# EAGLE library part TPS27081A (library Parts)
ハイサイド負荷ドライバ 電圧 - 負荷：1.2 V～8 V 電流 - 出力（最大）：3A Rds On（標準）：32ミリオーム 動作温度：-40°C～85°C（TA）
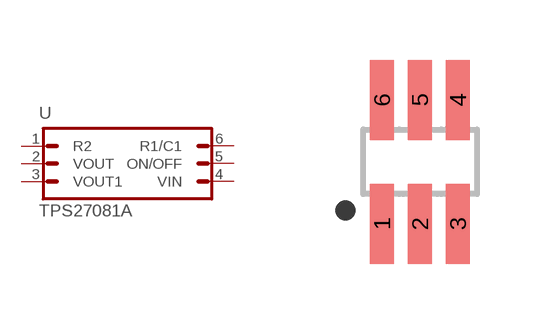
[diagram p26: symbol with the pads of SOT23-6L_DEV; footprint SOT23-6L_DEV]

Designator prefix U

## TPS27081A_  [SOT23-6L_DEV]
1  R2  pas
2  VOUT  pas
3  VOUT1  pas
4  VIN  pas
5  ON/OFF
6  R1/C1  pas

## Footprint SOT23-6L_DEV (pad centres in mm)
Small Outline Transistor SOT23-6L
smd 0.6 x 2: 1 -0.95,-1.55; 2 0,-1.55; 3 0.95,-1.55; 4 0.95,1.55; 5 0,1.55; 6 -0.95,1.55